# Altium footprint library WE-XHMA.PcbLib: 5 footprints
Each footprint in its own frame and in the unit in brackets; x right, y up, seen from the top. Pads: shape width x height; smd on the part's side, far side on the other; paste and mask are expansions set on the pad; w line width, h text height; cw(c..) or ccw(c..) is an arc to the next point about the centre after c.
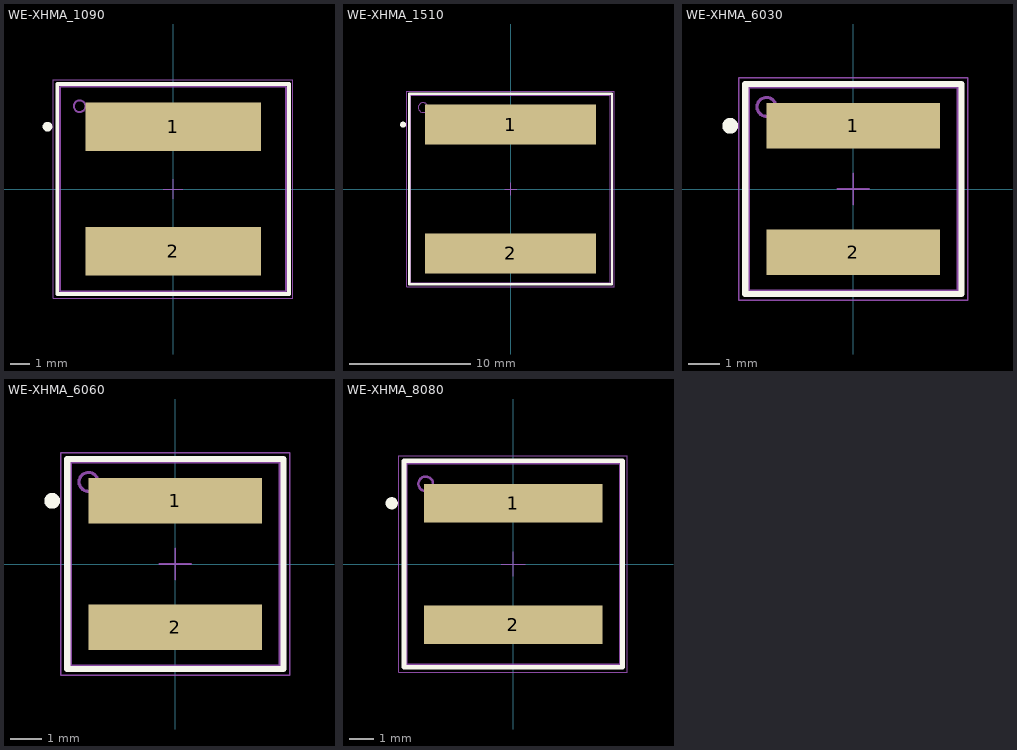
[diagram p0: the footprints below, top view; thin cyan lines are the x and y axes]

## WE-XHMA_1090 [mm] "SMT Power Inductor, 2-Leads, body 11.6x10.5mm"
height 9.1
pads (2):
  rect 9x2.5 smd: 1(0,3.2) 2(0,-3.2)
Top Overlay:
  circle w0.25: c-6.45,3.2 r0.125
  lines w0.2: -5.95,-5.4 -5.95,5.4 5.95,5.4 5.95,-5.4 -5.95,-5.4
Top Assembly:
  circle w0.1: c-4.8,4.25 r0.3
  lines w0.1: -5.8,-5.25 -5.8,5.25 5.8,5.25 5.8,-5.25 -5.8,-5.25
  text ".Designator" at -7.498,-0.5 h1.5
Top 3D Body:
  circle w0.1: c-4.8,4.25 r0.3
  lines w0.1: -5.8,-5.25 5.8,-5.25 5.8,5.25 -5.8,5.25 -5.8,-5.25
Top Courtyard:
  lines w0.05: -0.5,0 0.5,0 ; 0,-0.5 0,0.5 ; -6.15,-5.6 -6.15,5.6 6.15,5.6 6.15,-5.6 -6.15,-5.6
3D body "78439369xxx.stp": height 8.8, standoff 0, extent -5.8,-5.25 5.8,5.25

## WE-XHMA_1510 [mm] "SMT Power Inductor, 2-Leads, body 16.4x15.4mm"
height 10
pads (2):
  rect 14.1x3.3 smd: 1(0,5.3) 2(0,-5.3)
Top Overlay:
  circle w0.25: c-8.85,5.3 r0.125
  lines w0.2: -8.35,-7.85 -8.35,7.85 8.35,7.85 8.35,-7.85 -8.35,-7.85
Top Assembly:
  circle w0.1: c-7.2,6.7 r0.4
  lines w0.1: -8.2,-7.7 -8.2,7.7 8.2,7.7 8.2,-7.7 -8.2,-7.7
  text ".Designator" at -7.498,-0.5 h1.5
Top 3D Body:
  circle w0.1: c-7.2,6.7 r0.4
  lines w0.1: -8.2,-7.7 8.2,-7.7 8.2,7.7 -8.2,7.7 -8.2,-7.7
Top Courtyard:
  lines w0.05: -0.5,0 0.5,0 ; 0,-0.5 0,0.5 ; -8.55,-8.05 -8.55,8.05 8.55,8.05 8.55,-8.05 -8.55,-8.05
3D body "78439370xxx.stp": height 11, standoff 0, extent -8.2,-7.7 8.2,7.7

## WE-XHMA_6030 [mm] "SMT Power Inductor, 2-Leads, body 6.65x6.45mm"
height 3.3
pads (2):
  rect 5.5x1.45 smd: 1(0,2) 2(0,-2)
Top Overlay:
  circle w0.25: c-3.9,2 r0.125
  lines w0.2: -3.425,-3.325 -3.425,3.325 3.425,3.325 3.425,-3.325 -3.425,-3.325
Top Assembly:
  circle w0.1: c-2.75,2.6 r0.3
  lines w0.1: -3.325,-3.225 -3.325,3.225 3.325,3.225 3.325,-3.225 -3.325,-3.225
  text ".Designator" at -7.498,-0.5 h1.5
Top 3D Body:
  circle w0.1: c-2.75,2.6 r0.3
  lines w0.1: -3.325,-3.225 3.325,-3.225 3.325,3.225 -3.325,3.225 -3.325,-3.225
Top Courtyard:
  lines w0.05: -0.5,0 0.5,0 ; 0,-0.5 0,0.5 ; -3.625,-3.525 -3.625,3.525 3.625,3.525 3.625,-3.525 -3.625,-3.525
3D body "78439344xxx.stp": height 3, standoff 0, extent -3.325,-3.225 3.325,3.225

## WE-XHMA_6060 [mm] "SMT Power Inductor, 2-Leads, body 6.65x6.45mm"
height 6.1
pads (2):
  rect 5.5x1.45 smd: 1(0,2) 2(0,-2)
Top Overlay:
  circle w0.25: c-3.9,2 r0.125
  lines w0.2: -3.425,-3.325 3.425,-3.325 3.425,3.325 -3.425,3.325 -3.425,-3.325
Top Assembly:
  circle w0.1: c-2.75,2.6 r0.3
  lines w0.1: -3.325,-3.225 3.325,-3.225 3.325,3.225 -3.325,3.225 -3.325,-3.225
  text ".Designator" at -7.498,-0.5 h1.5
Top 3D Body:
  circle w0.1: c-2.75,2.6 r0.3
  lines w0.1: -3.325,-3.225 -3.325,3.225 3.325,3.225 3.325,-3.225 -3.325,-3.225
Top Courtyard:
  lines w0.05: -0.5,0 0.5,0 ; 0,-0.5 0,0.5 ; -3.625,-3.525 3.625,-3.525 3.625,3.525 -3.625,3.525 -3.625,-3.525
3D body "78439346xxx.stp": height 5.8, standoff 0, extent -3.325,-3.225 3.325,3.225

## WE-XHMA_8080 [mm] "SMT Power Inductor, 2-Leads, body 8.8x8.3mm"
height 8
pads (2):
  rect 7.35x1.6 smd: 1(0,2.5) 2(0,-2.5)
Top Overlay:
  circle w0.25: c-5,2.5 r0.125
  lines w0.2: -4.5,-4.25 4.5,-4.25 4.5,4.25 -4.5,4.25 -4.5,-4.25
Top Assembly:
  circle w0.1: c-3.6,3.3 r0.3
  lines w0.1: -4.4,-4.15 4.4,-4.15 4.4,4.15 -4.4,4.15 -4.4,-4.15
  text ".Designator" at -7.498,-0.5 h1.5
Top 3D Body:
  circle w0.1: c-3.6,3.3 r0.3
  lines w0.1: -4.4,-4.15 -4.4,4.15 4.4,4.15 4.4,-4.15 -4.4,-4.15
Top Courtyard:
  lines w0.05: -0.5,0 0.5,0 ; 0,-0.5 0,0.5 ; -4.7,-4.45 4.7,-4.45 4.7,4.45 -4.7,4.45 -4.7,-4.45
3D body "78439358xxx.stp": height 7.8, standoff 0, extent -4.4,-4.15 4.4,4.15